# EAGLE library part 8PIN_CONNECTOR (library BLHeli_32 45A)
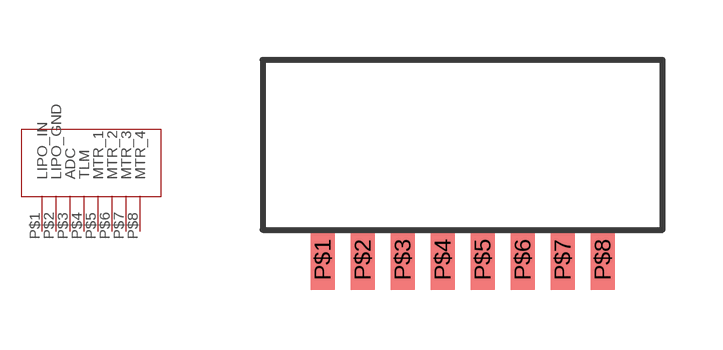
[diagram p2: symbol with the pads of 8PI_CONNECTOR; footprint 8PI_CONNECTOR]

Designator prefix -

## 8PIN_CONNECTOR  [8PI_CONNECTOR]
P$1  LIPO_IN
P$2  LIPO_GND
P$3  ADC
P$4  TLM
P$5  MTR_1
P$6  MTR_2
P$7  MTR_3
P$8  MTR_4

## Footprint 8PI_CONNECTOR (pad centres in mm)
smd 0.6 x 1.5: P$1 1.5,-0.75; P$2 2.5,-0.75; P$3 3.5,-0.75; P$4 4.5,-0.75; P$5 5.5,-0.75; P$6 6.5,-0.75; P$7 7.5,-0.75; P$8 8.5,-0.75